# EAGLE library part NANO_SIM (library SeniorDesign)
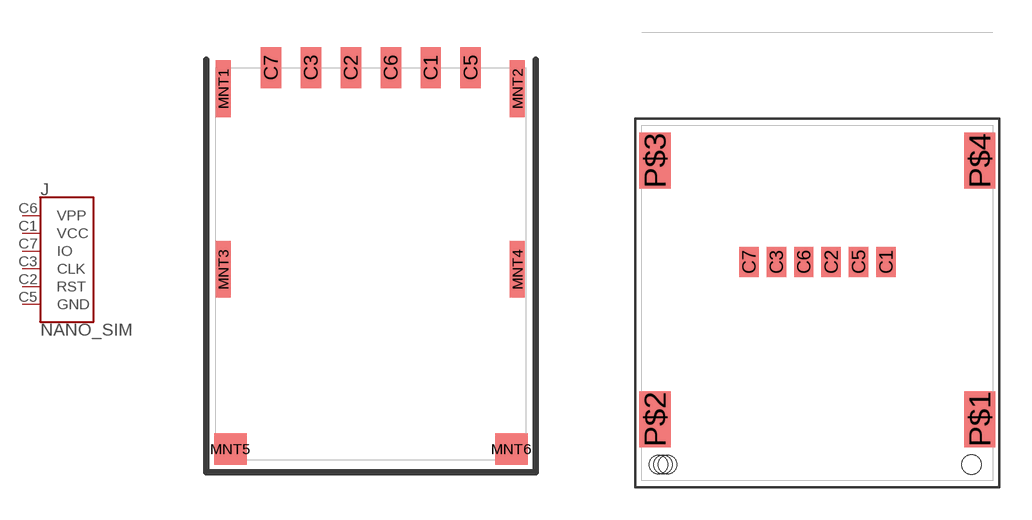
[diagram p2: symbol with the pads of NANO_SIM_WURTH_693043020611; footprints NANO_SIM_WURTH_693043020611, NANO_SIM_SI45C-08200]

Designator prefix J

## NANO_SIMWURTH (PROD_ID: CONN-14097)  [NANO_SIM_WURTH_693043020611]
C1  VCC
C2  RST
C3  CLK
C5  GND
C6  VPP
C7  IO

## NANO_SIMATOM  [NANO_SIM_SI45C-08200]
Pads as for NANO_SIM_WURTH_693043020611

## Footprint NANO_SIM_WURTH_693043020611 (pad centres in mm)
Wurth Nano-SIM Holder – 693043020611 Datasheet <http://katalog.we-online.de/em/datasheet/693043020611.pdf>
smd 0.65 x 1.3: C1 1.905,6.25; C2 -0.635,6.25; C3 -1.905,6.25; C5 3.175,6.25; C6 0.635,6.25; C7 -3.175,6.25
smd 0.48 x 1.8: MNT1 -4.69,5.58; MNT2 4.66,5.58; MNT3 -4.69,-0.17; MNT4 4.66,-0.17
smd 1.03 x 1: MNT5 -4.465,-5.89; MNT6 4.465,-5.89

## Footprint NANO_SIM_SI45C-08200 (pad centres in mm)
smd 0.9 x 1.4: C1 3.18,1.9; C2 0.64,1.9; C3 -1.9,1.9; C5 1.91,1.9; C6 -0.63,1.9; C7 -3.17,1.9
smd 1.45 x 2.6: P$1 7.53,-5.4; P$2 -7.52,-5.4; P$3 -7.52,6.6; P$4 7.53,6.6
hole 0.86 at -7.15,-7.5
hole 0.89 at 7.15,-7.5
hole 0.86 at -7.36,-7.5
hole 0.86 at -6.94,-7.5